# Altium footprint library SRR.PcbLib: 1 footprints
Each footprint in its own frame and in the unit in brackets; x right, y up, seen from the top. Pads: shape width x height; smd on the part's side, far side on the other; paste and mask are expansions set on the pad; w line width, h text height; cw(c..) or ccw(c..) is an arc to the next point about the centre after c.
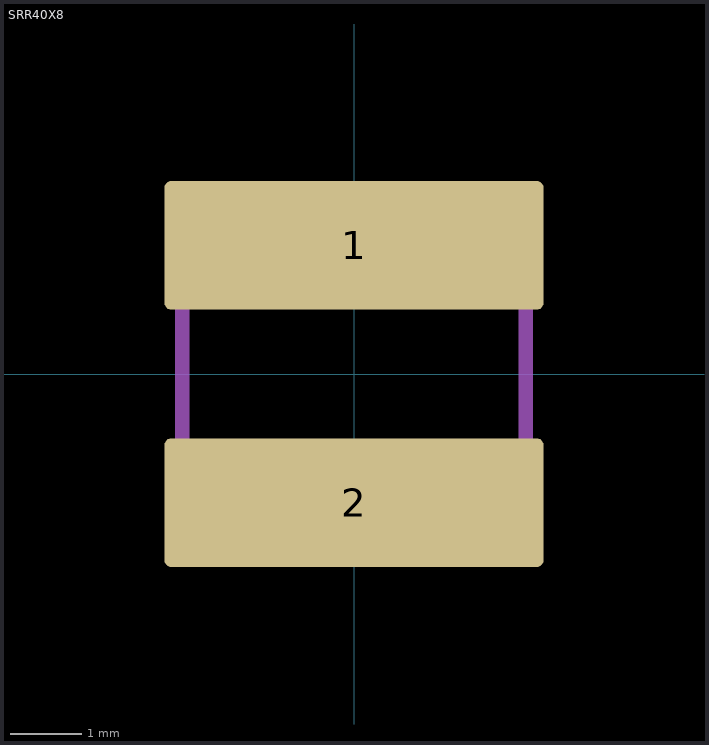
[diagram p0: the footprint, top view; thin cyan lines are the x and y axes]

## SRR40X8 [mm] "SRR4018/SRR4028 Bourns"
height 2.8
pads (2):
  rrect10% 5.3x1.8 smd paste-0.2 mask+0.025: 1(0,1.8) 2(0,-1.8)
Mechanical 1:
  lines w0.2: -2.4,-2.4 2.4,-2.4 2.4,2.4 -2.4,2.4 -2.4,-2.4
3D body: height 2.8, standoff 0, extent -2.399,-2.399 2.399,2.399